# Altium schematic symbol library battery.SchLib: 1 symbol
Pins are listed as number, name and electrical type; pins without a type are passive.

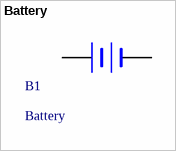
[diagram p0: symbol Battery]

## Battery
designator B1
电源
footprint Battery (电源座)
pins: 1 +, 2 -